# Altium footprint library Footprints.PcbLib: 40 footprints (part 1 of 3)
Each footprint in its own frame and in the unit in brackets; x right, y up, seen from the top. Pads: shape width x height; smd on the part's side, far side on the other; paste and mask are expansions set on the pad; w line width, h text height; cw(c..) or ccw(c..) is an arc to the next point about the centre after c.
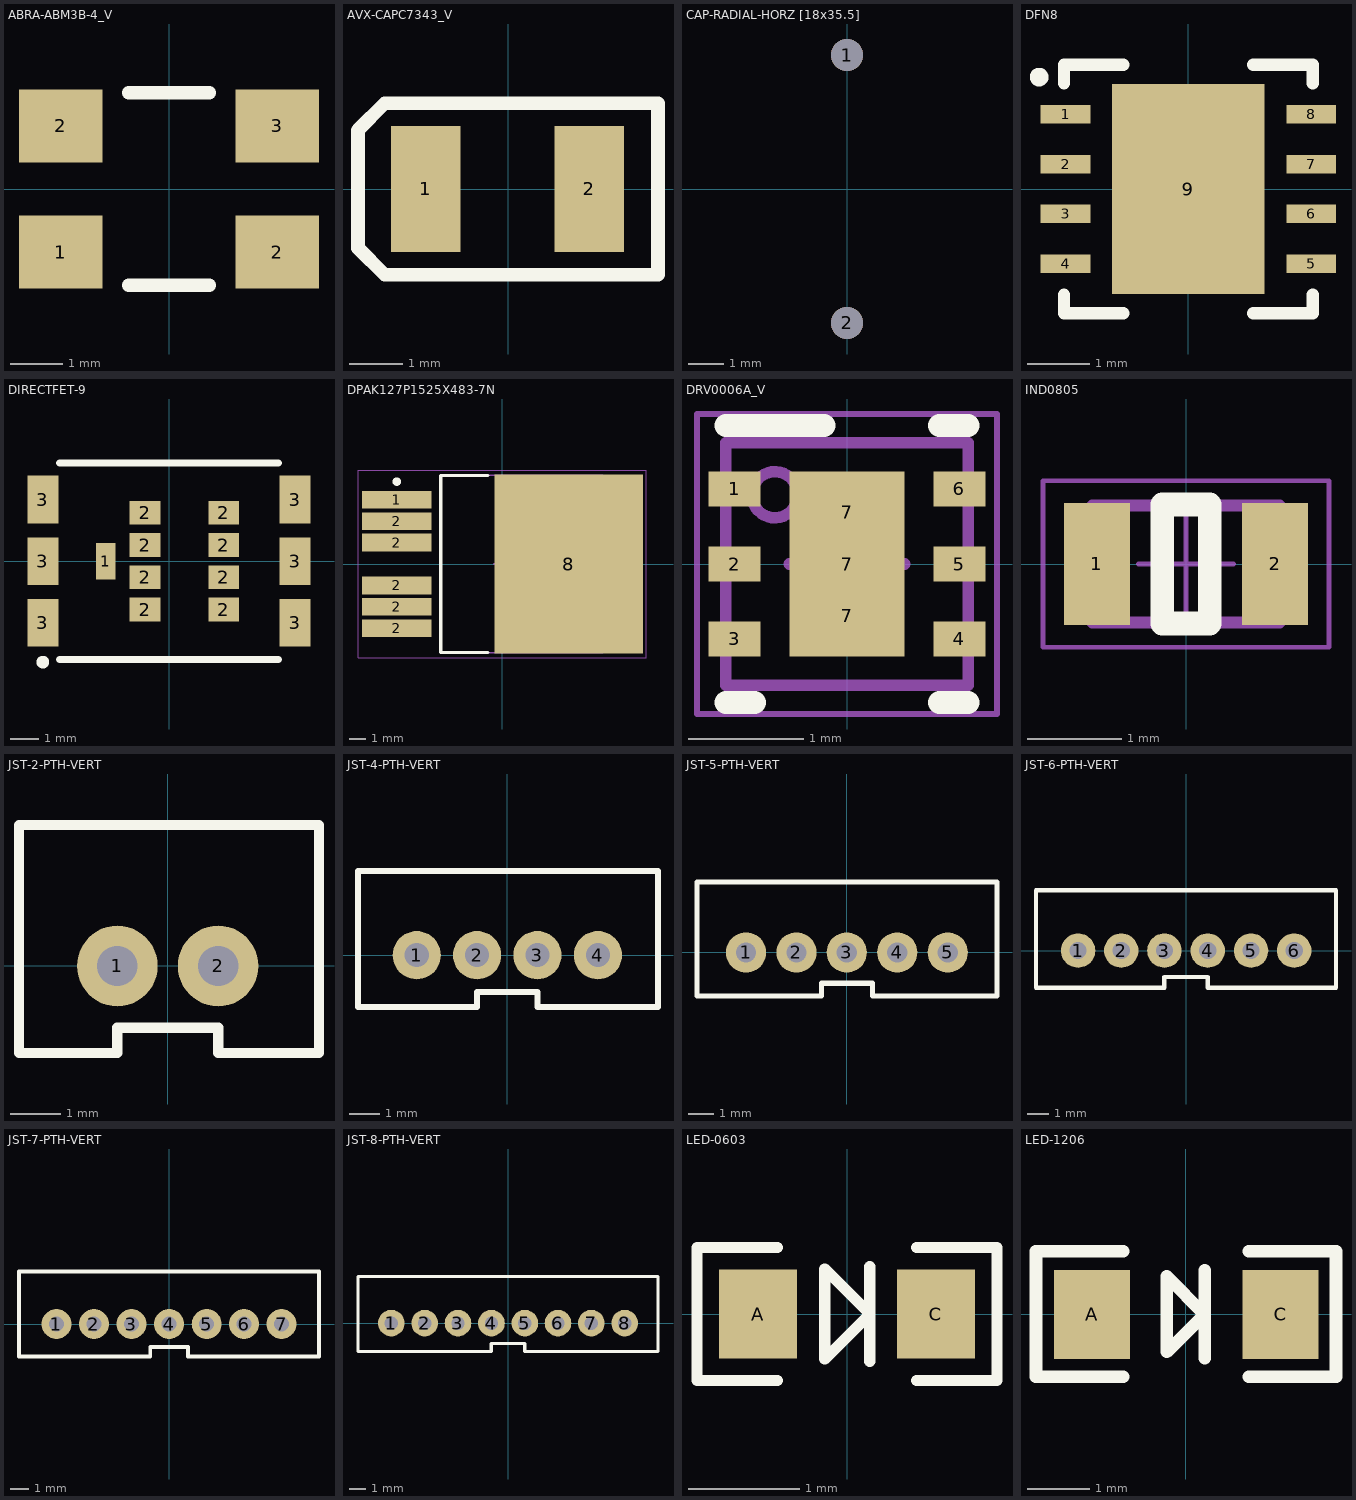
[diagram p0: the footprints below, top view; thin cyan lines are the x and y axes]

## ABRA-ABM3B-4_V [mil] "SMT Crystal, 4-Leads, Body 5.2x3.4mm"
pads (4):
  rect 63x55 smd: 1(-81.5,-47.5) 2(-81.5,47.5) 2(81.5,-47.5) 3(81.5,47.5)
Top Overlay:
  lines w10: -30.5,-72.5 30.5,-72.5 ; -30.5,72.5 30.5,72.5
3D body: height 19.68, standoff 0, extent 62.19,-52.22 97.74,-26.01
3D body: height 19.68, standoff 0, extent -103.01,-51.67 -67.46,-25.46
3D body: height 19.68, standoff 0, extent 67.17,24.91 102.72,51.12
3D body: height 19.68, standoff 0, extent -97.83,24.91 -62.28,51.12
3D body: height 39.37, standoff 0, extent -114.46,-46.87 113.11,46.73

## AVX-CAPC7343_V [mm] "SMT Capacitor, 2 Leads, Body 7.3x4.3mm"
pads (2):
  rect 1.3x2.35 smd: 1(-1.535,0.001) 2(1.515,0.001)
Top Overlay:
  lines w0.254: -2.8,-1.1 -2.3,-1.6 2.8,-1.6 2.8,1.597 -2.299,1.601 -2.8,1.1 -2.8,-1.1
3D body: height 1.9, standoff 0, extent -2.1,-1.1 2.1,1.1

## CAP-RADIAL-HORZ [18x35.5] [mm]
pads (2):
  round 0.9 / inner oval 1.1x1.9 / far side oval 1.1x1.9 hole 0.9: 1(0,3.75) 2(0,-3.75)
3D body: height 17, standoff 1, extent 1,-7.996 36,7.996

## DFN8 [mm] "SON, 8-Leads, Body 3.00x3.00mm, Pitch 0.65mm, Thermal Pad 2.00x1.47mm, IPC Medium Density"
height 1
pads (9):
  rect 0.8x0.3 smd: 1(-1.975,1.2) 2(-1.975,0.4) 3(-1.975,-0.4) 4(-1.975,-1.2) 5(1.975,-1.2) 6(1.975,-0.4) 7(1.975,0.4) 8(1.975,1.2)
  rect 2.45x3.38 smd: 9(0,0)
Top Overlay:
  circle w0.2: c-2.4,1.8 r0.05
  lines w0.2: -2,-1.7 -2,-2 -1.045,-2 ; -2,1.7 -2,2 -1.045,2 ; 1.045,-2 2,-2 2,-1.7 ; 1.045,2 2,2 2,1.7
Mechanical 13:
  circle w0.1: c-0.6,0.6 r0.5
Mechanical 15:
  lines w0.1: -0.5,0 0.5,0 ; 0,-0.5 0,0.5
3D body "User Library-SDC08B.STEP": height 0.8, standoff 0, extent -2,-2 2,2

## DIRECTFET-9 [mm]
pads (15):
  rect 0.7x1.3 smd: 1(-2.25,0)
  rect 1.1x0.85 smd: 2(-0.85,-1.725) 2(-0.85,-0.575) 2(-0.85,0.575) 2(-0.85,1.725) 2(1.95,-1.725) 2(1.95,-0.575) 2(1.95,0.575) 2(1.95,1.725)
  rect 1.1x1.7 smd: 3(-4.5,-2.2) 3(-4.5,0) 3(-4.5,2.2) 3(4.5,-2.2) 3(4.5,0) 3(4.5,2.2)
Top Overlay:
  circle w0.254: c-4.5,-3.6 r0.1
  lines w0.254: -3.9,-3.5 3.9,-3.5 ; -3.9,3.5 3.9,3.5
3D body "User Library-DirectFET-L8_AUIRF7669L2.step": height 0.83, standoff 0, extent -4.575,-3.55 4.575,3.55

## DPAK127P1525X483-7N [mm] "D2-PAK, 7-Pads, Body 7.93x8.63mm (max), IPC Medium Density"
height 4.83
pads (7):
  rect 4.15x1.05 smd mask+0.051: 1(-6.25,3.81) 2(-6.25,-3.81) 2(-6.25,-2.54) 2(-6.25,-1.27) 2(-6.25,1.27) 2(-6.25,2.54)
  rect 8.8x10.6 smd: 8(3.95,0)
Top Overlay:
  circle w0.25: c-6.25,4.885 r0.125
  lines w0.2: -0.85,-5.25 -3.65,-5.25 -3.65,5.25 -0.85,5.25
Mechanical 13:
  lines w0.1: -3.65,-5.275 -3.65,5.275 6,5.275 6,-5.275 -3.65,-5.275
Mechanical 15:
  lines w0.05: -8.55,-5.55 -8.55,5.55 8.55,5.55 8.55,-5.55 -8.55,-5.55
  lines w0.1: -0.5,0 0.5,0 ; 0,-0.5 0,0.5
3D body "IRF-S4010 7PPbF.stp": height 4.2, standoff 0, extent -7.004,-5 8,5

## DRV0006A_V [mm] "SON, 6-Leads, Body 2x2mm, Pitch 0.65mm, Thermal Pad 1.6x1mm, TI Recommended"
height 0.8
pads (9):
  rect 0.45x0.3 smd: 1(-0.975,0.65) 2(-0.975,0) 3(-0.975,-0.65) 4(0.975,-0.65) 5(0.975,0) 6(0.975,0.65)
  rrect14% 1x0.7 on Top Paste: 7(0,-0.45) 7(0,0.45)
  rect 1x1.6 smd paste-0.5: 7(0,0)
Top Overlay:
  lines w0.2: -1.05,-1.2 -0.8,-1.2 ; -1.05,1.2 -0.2,1.2 ; 0.8,-1.2 1.05,-1.2 ; 0.8,1.2 1.05,1.2
Mechanical 13:
  circle w0.1: c-0.625,0.6 r0.2
  lines w0.1: -1.05,-1.05 1.05,-1.05 1.05,1.05 -1.05,1.05 -1.05,-1.05
Mechanical 15:
  lines w0.05: -1.3,-1.3 1.3,-1.3 1.3,1.3 -1.3,1.3 -1.3,-1.3
  lines w0.1: -0.5,0 0.5,0 ; 0,-0.5 0,0.5
3D body: height 0.8, standoff 0, extent -1.05,-1.05 1.05,1.05
3D body: height 0.81, standoff 0.5, extent -0.824,0.401 -0.426,0.799

## IND0805 [mm] "Chip Inductor Body 2.0x1.25mm"
height 0.45
pads (2):
  rect 0.7x1.3 smd: 1(-0.95,0) 2(0.95,0)
Top Overlay:
  lines w0.254: -0.254,-0.635 -0.254,0.635 0.254,0.635 0.254,-0.635 -0.254,-0.635
Mechanical 2:
  lines w0.051: -0.508,0 0.508,0 ; 0,-0.508 0,0.508 ; -1.524,-0.889 1.524,-0.889 1.524,0.889 -1.524,0.889 -1.524,-0.889
Mechanical 3:
  lines w0.127: -1,-0.625 -1,0.625 1,0.625 1,-0.625 -1,-0.625
3D body "LQM21NN0_1-2_2u.stp": height 0.85, standoff 0, extent -1,-0.625 1,0.625

## JST-2-PTH-VERT [mm]
pads (2):
  round 1.6 hole 0.8: 1(-1,0) 2(1,0)
Top Overlay:
  lines w0.203: -2.95,-1.723 -2.95,2.794 3,2.794 3,-1.723 1,-1.723 1,-1.223 -1,-1.223 -1,-1.723 -2.95,-1.723
3D body "B2B-PH-K-S.STEP": height 6, standoff -3.4, extent -2.95,-1.7 2.95,2.8

## JST-4-PTH-VERT [mil]
pads (4):
  round 63 hole 31.5: 1(-118.11,0) 2(-39.37,0) 3(39.37,0) 4(118.37,0)
Top Overlay:
  lines w8: -194.88,-67.84 -39.37,-67.84 -39.37,-48.16 39.37,-48.16 39.37,-67.84 196.85,-67.84 196.85,110 -194.88,110 -194.88,-67.84
3D body "B4B-PH-K-S.STEP": height 236.22, standoff -133.86, extent -194.88,-66.93 194.88,110.24

## JST-5-PTH-VERT [mil]
pads (5):
  round 63 hole 31.5: 1(-157.48,0) 2(-78.74,0) 3(0,0) 4(79,0) 5(158,0)
Top Overlay:
  lines w8: -234.25,-67.84 -234.25,110 235,110 235,-67.84 40,-67.84 40,-48.16 -39.37,-48.16 -39.37,-67.84 -234.25,-67.84
3D body "B5B-PH-K-S.STEP": height 236.22, standoff -133.86, extent -236.22,-68.9 232.28,108.27

## JST-6-PTH-VERT [mil]
pads (6):
  round 63 hole 31.5: 1(-196.85,0) 2(-118.11,0) 3(-39.37,0) 4(39.63,0) 5(118.63,0) 6(197.37,0)
Top Overlay:
  lines w7.87: -273.62,-67.84 -39.37,-67.84 ; 40,-67.84 273.62,-67.84
  lines w8: -273.62,-67.84 -273.62,110 271.65,110 ; -39.37,-67.84 -39.37,-48.16 40,-48.16 40,-67.84 ; 273.62,-67.84 273.62,110
3D body "B6B-PH-K-S.STEP": height 236.22, standoff -133.86, extent -273.62,-66.93 273.62,110.24

## JST-7-PTH-VERT [mil]
pads (7):
  round 63 hole 31.5: 1(-236.22,0) 2(-157.48,0) 3(-78.74,0) 4(0.26,0) 5(79.26,0) 6(157.48,0) 7(236.22,0)
Top Overlay:
  lines w8: -314.96,-67.84 -39.37,-67.84 -39.37,-48.16 40,-48.16 40,-67.84 314.96,-67.84 314.96,110 -314.96,110 -314.96,-67.84
3D body "B7B-PH-K-S.STEP": height 236.22, standoff -133.86, extent -316.93,-66.93 309.06,110.24

## JST-8-PTH-VERT [mil]
pads (8):
  round 63 hole 31.5: 1(-275.59,0) 2(-196.85,0) 3(-118.11,0) 4(-39.11,0) 5(39.89,0) 6(118.11,0) 7(196.85,0) 8(275.59,0)
Top Overlay:
  lines w8: -354.33,-66.93 -354.33,110 354.33,110 354.33,-66.93 39.37,-66.93 39.37,-48.16 -39.37,-48.16 -39.37,-66.93 -354.33,-66.93
3D body "B8B-PH-K-S.STEP": height 236.22, standoff -133.86, extent -352.36,-67.16 352.36,110

## LED-0603 [mm]
pads (2):
  rect 0.7x0.8 smd: A(-0.8,0) C(0.8,0)
Top Overlay:
  lines w0.1: -0.625,-0.6 -1.35,-0.6 -1.35,0.6 -0.625,0.6 ; -0.2,-0.405 0.205,0 -0.2,0.405 ; -0.2,-0.4 -0.2,0.4 ; 0.205,-0.425 0.205,0.425 ; 0.625,-0.6 1.35,-0.6 1.35,0.6 0.625,0.6
3D body "LED 0603 APT1608 WHITE.STEP": height 0.75, standoff 0, extent -0.8,-0.4 0.8,0.4

## LED-1206 [mil]
pads (2):
  rect 48x56 smd: A(-59.06,0) C(60,0)
Top Overlay:
  lines w8: -39.37,-39.37 -94.49,-39.37 -94.49,40 -39.37,40 ; 12,-27.56 12,0 ; 12,28 12,0 ; 40,-39.37 95,-39.37 95,40 40,40 ; 12,0 -11.81,24 -11.81,-23.62 12,0
3D body "Surface Mount Chip LED 3.2x1.6mm.stp": height 43.31, standoff -0.39, extent -62.99,-31.5 62.99,31.49